# Altium schematic symbol library MPU-6050.SchLib: 1 symbol
Pins are listed as number, name and electrical type; pins without a type are passive.

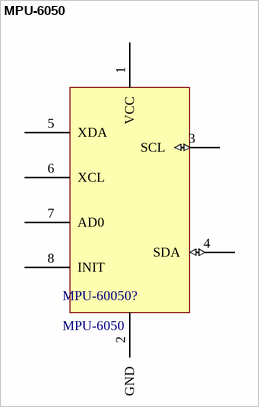
[diagram p0: symbol MPU-6050]

## MPU-6050
designator MPU-60050?
pins: 1 VCC, 2 GND (power), 3 SCL (io), 4 SDA (io), 5 XDA, 6 XCL, 7 AD0, 8 INIT